# EAGLE library part LT3795 (library LT3795)
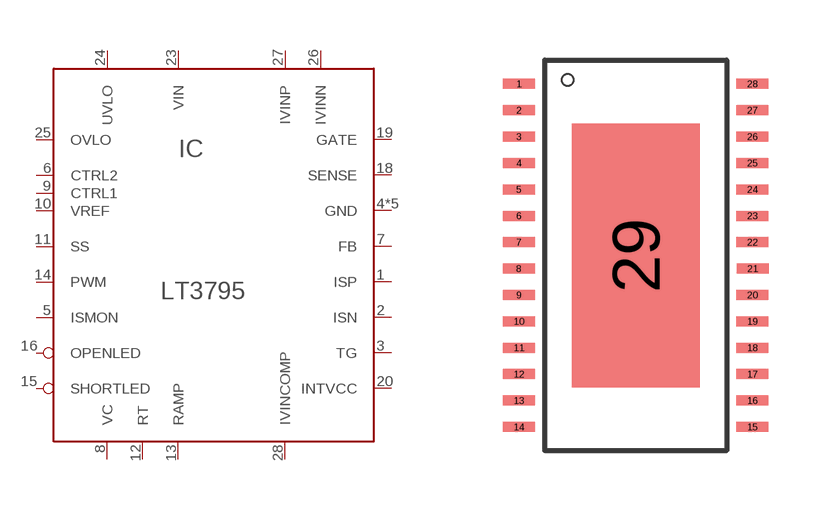
[diagram p0: symbol with the pads of TSSOP28-GROUNDPAD; footprint TSSOP28-GROUNDPAD]

Designator prefix IC

## LT3795  [TSSOP28-GROUNDPAD]
1  ISP  in
2  ISN  in
3  TG  out
4  GND
5  ISMON  out
6  CTRL2  in
7  FB  in
8  VC
9  CTRL1  in
10  VREF
11  SS
12  RT
13  RAMP
14  PWM  in
15  SHORTLED  oc
16  OPENLED  oc
17  GND
18  SENSE  in
19  GATE  out
20  INTVCC  out
21  GND
22  GND
23  VIN  pwr
24  UVLO  in
25  OVLO  in
26  IVINN  in
27  IVINP  in
28  IVINCOMP
29  GND

## Footprint TSSOP28-GROUNDPAD (pad centres in mm)
smd 0.8 x 0.25: 1 -2.921,4.298; 2 -2.921,3.637; 3 -2.921,2.977; 4 -2.921,2.317; 5 -2.921,1.656; 6 -2.921,0.996; 7 -2.921,0.335; 8 -2.927,-0.325; 9 -2.921,-0.985; 10 -2.921,-1.646; 11 -2.921,-2.306; 12 -2.921,-2.967; 13 -2.921,-3.627; 14 -2.921,-4.287; 15 2.921,-4.287; 16 2.921,-3.627; 17 2.921,-2.967; 18 2.921,-2.306; 19 2.921,-1.646; 20 2.921,-0.985; 21 2.927,-0.325; 22 2.921,0.335; 23 2.921,0.996; 24 2.921,1.656; 25 2.921,2.317; 26 2.921,2.977; 27 2.921,3.637; 28 2.921,4.298
smd 3.2 x 6.6: 29 0,0.005